# EAGLE library part MCP6548 (library microchip_comparators)
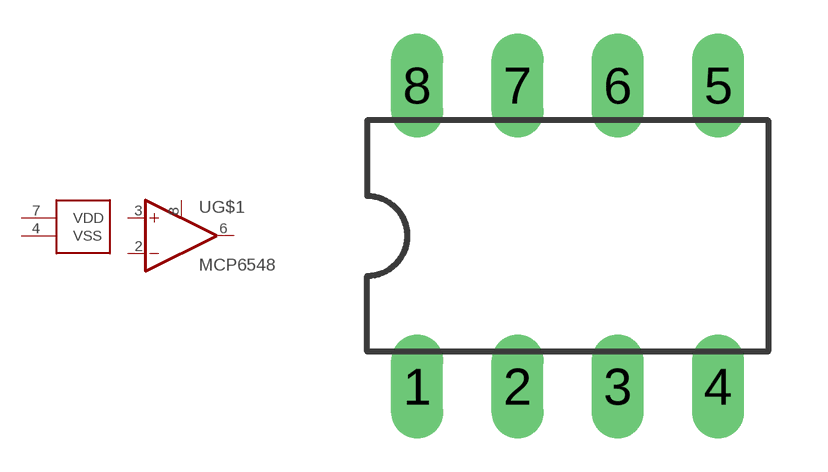
[diagram p1: symbol with the pads of DIL08; footprint DIL08]

Designator prefix -; gates G$1=OP_AMP_CHIP_SELECT G$2=POWER_PINS

## MCP6548  [DIL08]
2  G$1:-IN  in
3  G$1:+IN  in
4  G$2:VSS
6  G$1:OUT  out
7  G$2:VDD
8  G$1:_CS_  in

## Footprint DIL08 (pad centres in mm)
drill 0.813 long: 1 -3.81,-3.81; 2 -1.27,-3.81; 3 1.27,-3.81; 4 3.81,-3.81; 5 3.81,3.81; 6 1.27,3.81; 7 -1.27,3.81; 8 -3.81,3.81